# EAGLE library part L4901A (library stabilizatory)
DUAL VOLTAGE REGULATOR
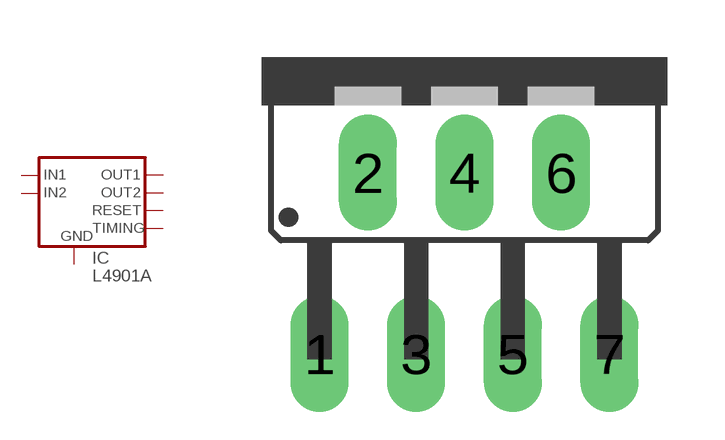
[diagram p6: symbol with the pads of HEPTAWATT_V; footprint HEPTAWATT_V]

Designator prefix IC

## L4901A  [HEPTAWATT_V]
1  IN1  in
2  IN2  in
3  TIMING  pas
4  GND  in
5  RESET  pas
6  OUT2  pas
7  OUT1  pas

## Footprint HEPTAWATT_V (pad centres in mm)
drill 1.016 long: 1 -3.81,-7.803; 2 -2.54,-3.04; 3 -1.27,-7.803; 4 0,-3.04; 5 1.27,-7.803; 6 2.54,-3.04; 7 3.81,-7.803